# Altium integrated library Altera Cyclone IV E.IntLib: 223 symbols (part 8 of 32)
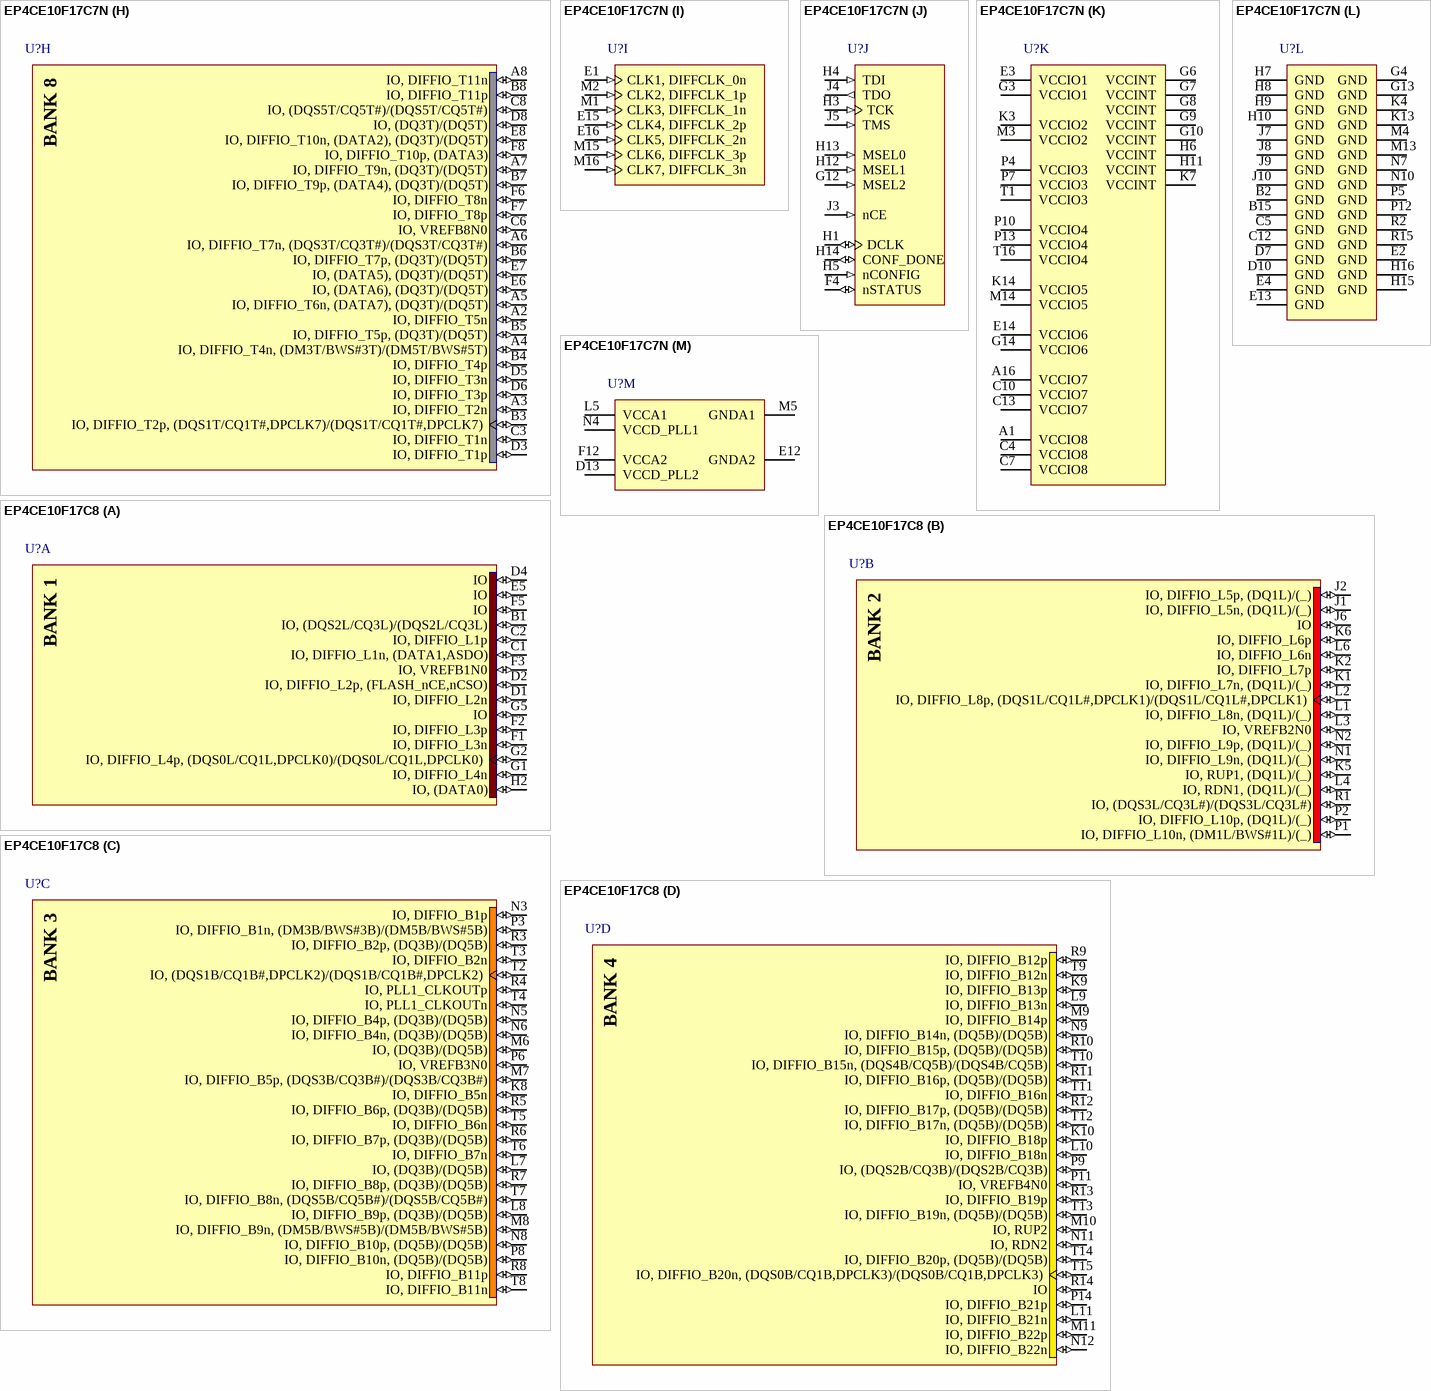
[diagram p503: symbols EP4CE10F17C7N to EP4CE10F17C8]

## EP4CE10F17C7N
designator U?
Cyclone IV Family FPGA, 1.2V Core, 179 I/O Pins, 2 PLLs, 256-Pin FBGA, Speed Grade 7, Commercial Grade, Pb-Free; Manufacturer: Altera; DatasheetVersion: ver1.6, Nov-2011; PackageVersion: ver2.0, Nov-2011; PackageReference: FBGA256_A-155; PackageDescription: 256-Pin FineLine Ball-Grid Array (FBGA) - Thin - Wire Bond - A:1.55; Code_JEDEC: MO-192-DAF-1; ComponentLink1Description: Manufacturer URL; ComponentLink1URL: http://www.altera.com/; ComponentLink2Description: Handbook; ComponentLink2URL: http://www.altera.com/literature/hb/cyclone-iv/cyclone4-handbook.pdf; ComponentLink3Description: Pinout; ComponentLink3URL: http://www.altera.com/literature/lit-dp.jsp?category=cyc%204&showspreadsheet=y; ComponentLink4Description: Package Specification; ComponentLink4URL: http://www.altera.com/devicepackaging/04R00230-03.pdf
footprint FBGA256_A-155 (BGA, 256-Leads, Body 17x17mm, Pitch 1mm)
part A pins: B1 IO, (DQS2L/CQ3L)/(DQS2L/CQ3L) (io), C1 IO, DIFFIO_L1n, (DATA1,ASDO) (io), C2 IO, DIFFIO_L1p (io), D1 IO, DIFFIO_L2n (io), D2 IO, DIFFIO_L2p, (FLASH_nCE,nCSO) (io), D4 IO (io), E5 IO (io), F1 IO, DIFFIO_L3n (io), F2 IO, DIFFIO_L3p (io), F3 IO, VREFB1N0 (io), F5 IO (io), G1 IO, DIFFIO_L4n (io), G2 IO, DIFFIO_L4p, (DQS0L/CQ1L,DPCLK0)/(DQS0L/CQ1L,DPCLK0) (io), G5 IO (io), H2 IO, (DATA0) (io)
part B pins: J1 IO, DIFFIO_L5n, (DQ1L)/(_) (io), J2 IO, DIFFIO_L5p, (DQ1L)/(_) (io), J6 IO (io), K1 IO, DIFFIO_L7n, (DQ1L)/(_) (io), K2 IO, DIFFIO_L7p (io), K5 IO, RUP1, (DQ1L)/(_) (io), K6 IO, DIFFIO_L6p (io), L1 IO, DIFFIO_L8n, (DQ1L)/(_) (io), L2 IO, DIFFIO_L8p, (DQS1L/CQ1L#,DPCLK1)/(DQS1L/CQ1L#,DPCLK1) (io), L3 IO, VREFB2N0 (io), L4 IO, RDN1, (DQ1L)/(_) (io), L6 IO, DIFFIO_L6n (io), N1 IO, DIFFIO_L9n, (DQ1L)/(_) (io), N2 IO, DIFFIO_L9p, (DQ1L)/(_) (io), P1 IO, DIFFIO_L10n, (DM1L/BWS#1L)/(_) (io), P2 IO, DIFFIO_L10p, (DQ1L)/(_) (io), R1 IO, (DQS3L/CQ3L#)/(DQS3L/CQ3L#) (io)
part C pins: K8 IO, DIFFIO_B5n (io), L7 IO, (DQ3B)/(DQ5B) (io), L8 IO, DIFFIO_B9p, (DQ3B)/(DQ5B) (io), M6 IO, (DQ3B)/(DQ5B) (io), M7 IO, DIFFIO_B5p, (DQS3B/CQ3B#)/(DQS3B/CQ3B#) (io), M8 IO, DIFFIO_B9n, (DM5B/BWS#5B)/(DM5B/BWS#5B) (io), N3 IO, DIFFIO_B1p (io), N5 IO, DIFFIO_B4p, (DQ3B)/(DQ5B) (io), N6 IO, DIFFIO_B4n, (DQ3B)/(DQ5B) (io), N8 IO, DIFFIO_B10p, (DQ5B)/(DQ5B) (io), P3 IO, DIFFIO_B1n, (DM3B/BWS#3B)/(DM5B/BWS#5B) (io), P6 IO, VREFB3N0 (io), P8 IO, DIFFIO_B10n, (DQ5B)/(DQ5B) (io), R3 IO, DIFFIO_B2p, (DQ3B)/(DQ5B) (io), R4 IO, PLL1_CLKOUTp (io), R5 IO, DIFFIO_B6p, (DQ3B)/(DQ5B) (io), R6 IO, DIFFIO_B7p, (DQ3B)/(DQ5B) (io), R7 IO, DIFFIO_B8p, (DQ3B)/(DQ5B) (io), R8 IO, DIFFIO_B11p (io), T2 IO, (DQS1B/CQ1B#,DPCLK2)/(DQS1B/CQ1B#,DPCLK2) (io), T3 IO, DIFFIO_B2n (io), T4 IO, PLL1_CLKOUTn (io), T5 IO, DIFFIO_B6n (io), T6 IO, DIFFIO_B7n (io), T7 IO, DIFFIO_B8n, (DQS5B/CQ5B#)/(DQS5B/CQ5B#) (io), T8 IO, DIFFIO_B11n (io)
part D pins: K9 IO, DIFFIO_B13p (io), K10 IO, DIFFIO_B18p (io), L9 IO, DIFFIO_B13n (io), L10 IO, DIFFIO_B18n (io), L11 IO, DIFFIO_B21n (io), M9 IO, DIFFIO_B14p (io), M10 IO, RUP2 (io), M11 IO, DIFFIO_B22p (io), N9 IO, DIFFIO_B14n, (DQ5B)/(DQ5B) (io), N11 IO, RDN2 (io), N12 IO, DIFFIO_B22n (io), P9 IO, (DQS2B/CQ3B)/(DQS2B/CQ3B) (io), P11 IO, VREFB4N0 (io), P14 IO, DIFFIO_B21p (io), R9 IO, DIFFIO_B12p (io), R10 IO, DIFFIO_B15p, (DQ5B)/(DQ5B) (io), R11 IO, DIFFIO_B16p, (DQ5B)/(DQ5B) (io), R12 IO, DIFFIO_B17p, (DQ5B)/(DQ5B) (io), R13 IO, DIFFIO_B19p (io), R14 IO (io), T9 IO, DIFFIO_B12n (io), T10 IO, DIFFIO_B15n, (DQS4B/CQ5B)/(DQS4B/CQ5B) (io), T11 IO, DIFFIO_B16n (io), T12 IO, DIFFIO_B17n, (DQ5B)/(DQ5B) (io), T13 IO, DIFFIO_B19n, (DQ5B)/(DQ5B) (io), T14 IO, DIFFIO_B20p, (DQ5B)/(DQ5B) (io), T15 IO, DIFFIO_B20n, (DQS0B/CQ1B,DPCLK3)/(DQS0B/CQ1B,DPCLK3) (io)
part E pins: J11 IO (io), J12 IO, DIFFIO_R6p (io), J13 IO, (DQ1R)/(_) (io), J14 IO, DIFFIO_R6n, (DQ1R)/(_) (io), J15 IO, DIFFIO_R7p, (DEV_CLRn) (io), J16 IO, DIFFIO_R7n, (DEV_OE) (io), K11 IO (io), K12 IO (io), K15 IO, DIFFIO_R8p, (DQS1R/CQ1R#,DPCLK4)/(DQS1R/CQ1R#,DPCLK4) (io), K16 IO, DIFFIO_R8n, (DQ1R)/(_) (io), L12 IO (io), L13 IO, (DQ1R)/(_) (io), L14 IO, VREFB5N0 (io), L15 IO, DIFFIO_R9p (io), L16 IO, DIFFIO_R9n, (DQ1R)/(_) (io), M12 IO (io), N13 IO (io), N14 IO, RUP3, (DM1R/BWS#1R)/(_) (io), N15 IO, DIFFIO_R10p, (DQ1R)/(_) (io), N16 IO, DIFFIO_R10n, (DQ1R)/(_) (io), P15 IO, RDN3, (DQ1R)/(_) (io), P16 IO, DIFFIO_R11n, (DQS3R/CQ3R#)/(DQS3R/CQ3R#) (io), R16 IO, DIFFIO_R11p, (DQ1R)/(_) (io)
part F pins: B16 IO, (DQS0R/CQ1R,DPCLK5)/(DQS0R/CQ1R,DPCLK5) (io), C15 IO, DIFFIO_R1p (io), C16 IO, DIFFIO_R1n, (DQS2R/CQ3R)/(DQS2R/CQ3R) (io), D15 IO, DIFFIO_R2p (io), D16 IO, DIFFIO_R2n (io), F13 IO (io), F14 IO, VREFB6N0 (io), F15 IO, DIFFIO_R3p, (CLKUSR) (io), F16 IO, DIFFIO_R3n, (nCEO) (io), G11 IO (io), G15 IO, DIFFIO_R4p, (CRC_ERROR) (io), G16 IO, DIFFIO_R4n, (INIT_DONE) (io)
part G pins: A9 IO, DIFFIO_T12n (io), A10 IO, DIFFIO_T14n, (DQ5T)/(DQ5T) (io), A11 IO, DIFFIO_T17n, (DQ5T)/(DQ5T) (io), A12 IO, DIFFIO_T18n, (DQ5T)/(DQ5T) (io), A13 IO, DIFFIO_T19n (io), A14 IO, PLL2_CLKOUTn (io), A15 IO, DIFFIO_T15p (io), B9 IO, DIFFIO_T12p (io), B10 IO, DIFFIO_T14p, (DQ5T)/(DQ5T) (io), B11 IO, DIFFIO_T17p, (DQ5T)/(DQ5T) (io), B12 IO, DIFFIO_T18p, (DQ5T)/(DQ5T) (io), B13 IO, DIFFIO_T19p, (DQ5T)/(DQ5T) (io), B14 IO, PLL2_CLKOUTp (io), C9 IO, DIFFIO_T13n, (DQ5T)/(DQ5T) (io), C11 IO, VREFB7N0 (io), C14 IO, DIFFIO_T21n (io), D9 IO, DIFFIO_T13p, (DM5T/BWS#5T)/(DM5T/BWS#5T) (io), D11 IO, DIFFIO_T20n (io), D12 IO, DIFFIO_T20p, (DQS0T/CQ1T,DPCLK6)/(DQS0T/CQ1T,DPCLK6) (io), D14 IO, DIFFIO_T21p, (DQ5T)/(DQ5T) (io), E9 IO, (DQS4T/CQ5T)/(DQS4T/CQ5T) (io), E10 IO, RDN4 (io), E11 IO, RUP4 (io), F9 IO, DIFFIO_T16p, (DQS2T/CQ3T)/(DQS2T/CQ3T) (io), F10 IO, DIFFIO_T16n (io), F11 IO, DIFFIO_T15n (io)
part H pins: A2 IO, DIFFIO_T5n (io), A3 IO, DIFFIO_T2n (io), A4 IO, DIFFIO_T4n, (DM3T/BWS#3T)/(DM5T/BWS#5T) (io), A5 IO, DIFFIO_T6n, (DATA7), (DQ3T)/(DQ5T) (io), A6 IO, DIFFIO_T7n, (DQS3T/CQ3T#)/(DQS3T/CQ3T#) (io), A7 IO, DIFFIO_T9n, (DQ3T)/(DQ5T) (io), A8 IO, DIFFIO_T11n (io), B3 IO, DIFFIO_T2p, (DQS1T/CQ1T#,DPCLK7)/(DQS1T/CQ1T#,DPCLK7) (io), B4 IO, DIFFIO_T4p (io), B5 IO, DIFFIO_T5p, (DQ3T)/(DQ5T) (io), B6 IO, DIFFIO_T7p, (DQ3T)/(DQ5T) (io), B7 IO, DIFFIO_T9p, (DATA4), (DQ3T)/(DQ5T) (io), B8 IO, DIFFIO_T11p (io), C3 IO, DIFFIO_T1n (io), C6 IO, VREFB8N0 (io), C8 IO, (DQS5T/CQ5T#)/(DQS5T/CQ5T#) (io), D3 IO, DIFFIO_T1p (io), D5 IO, DIFFIO_T3n (io), D6 IO, DIFFIO_T3p (io), D8 IO, (DQ3T)/(DQ5T) (io), E6 IO, (DATA6), (DQ3T)/(DQ5T) (io), E7 IO, (DATA5), (DQ3T)/(DQ5T) (io), E8 IO, DIFFIO_T10n, (DATA2), (DQ3T)/(DQ5T) (io), F6 IO, DIFFIO_T8n (io), F7 IO, DIFFIO_T8p (io), F8 IO, DIFFIO_T10p, (DATA3) (io)
part I pins: E1 CLK1, DIFFCLK_0n (in), E15 CLK4, DIFFCLK_2p (in), E16 CLK5, DIFFCLK_2n (in), M1 CLK3, DIFFCLK_1n (in), M2 CLK2, DIFFCLK_1p (in), M15 CLK6, DIFFCLK_3p (in), M16 CLK7, DIFFCLK_3n (in)
part J pins: F4 nSTATUS (io), G12 MSEL2 (in), H1 DCLK (io), H3 TCK (in), H4 TDI (in), H5 nCONFIG (in), H12 MSEL1 (in), H13 MSEL0 (in), H14 CONF_DONE (io), J3 nCE (in), J4 TDO (out), J5 TMS (in)
part K pins: A1 VCCIO8 (power), A16 VCCIO7 (power), C4 VCCIO8 (power), C7 VCCIO8 (power), C10 VCCIO7 (power), C13 VCCIO7 (power), E3 VCCIO1 (power), E14 VCCIO6 (power), G3 VCCIO1 (power), G6 VCCINT (power), G7 VCCINT (power), G8 VCCINT (power), G9 VCCINT (power), G10 VCCINT (power), G14 VCCIO6 (power), H6 VCCINT (power), H11 VCCINT (power), K3 VCCIO2 (power), K7 VCCINT (power), K14 VCCIO5 (power), M3 VCCIO2 (power), M14 VCCIO5 (power), P4 VCCIO3 (power), P7 VCCIO3 (power), P10 VCCIO4 (power), P13 VCCIO4 (power), T1 VCCIO3 (power), T16 VCCIO4 (power)
part L pins: B2 GND (power), B15 GND (power), C5 GND (power), C12 GND (power), D7 GND (power), D10 GND (power), E2 GND (power), E4 GND (power), E13 GND (power), G4 GND (power), G13 GND (power), H7 GND (power), H8 GND (power), H9 GND (power), H10 GND (power), H15 GND (power), H16 GND (power), J7 GND (power), J8 GND (power), J9 GND (power), J10 GND (power), K4 GND (power), K13 GND (power), M4 GND (power), M13 GND (power), N7 GND (power), N10 GND (power), P5 GND (power), P12 GND (power), R2 GND (power), R15 GND (power)
part M pins: D13 VCCD_PLL2 (power), E12 GNDA2 (power), F12 VCCA2 (power), L5 VCCA1 (power), M5 GNDA1 (power), N4 VCCD_PLL1 (power)
part A text: BANK 1
part B text: BANK 2
part C text: BANK 3
part D text: BANK 4
part E text: BANK 5
part F text: BANK 6
part G text: BANK 7
part H text: BANK 8

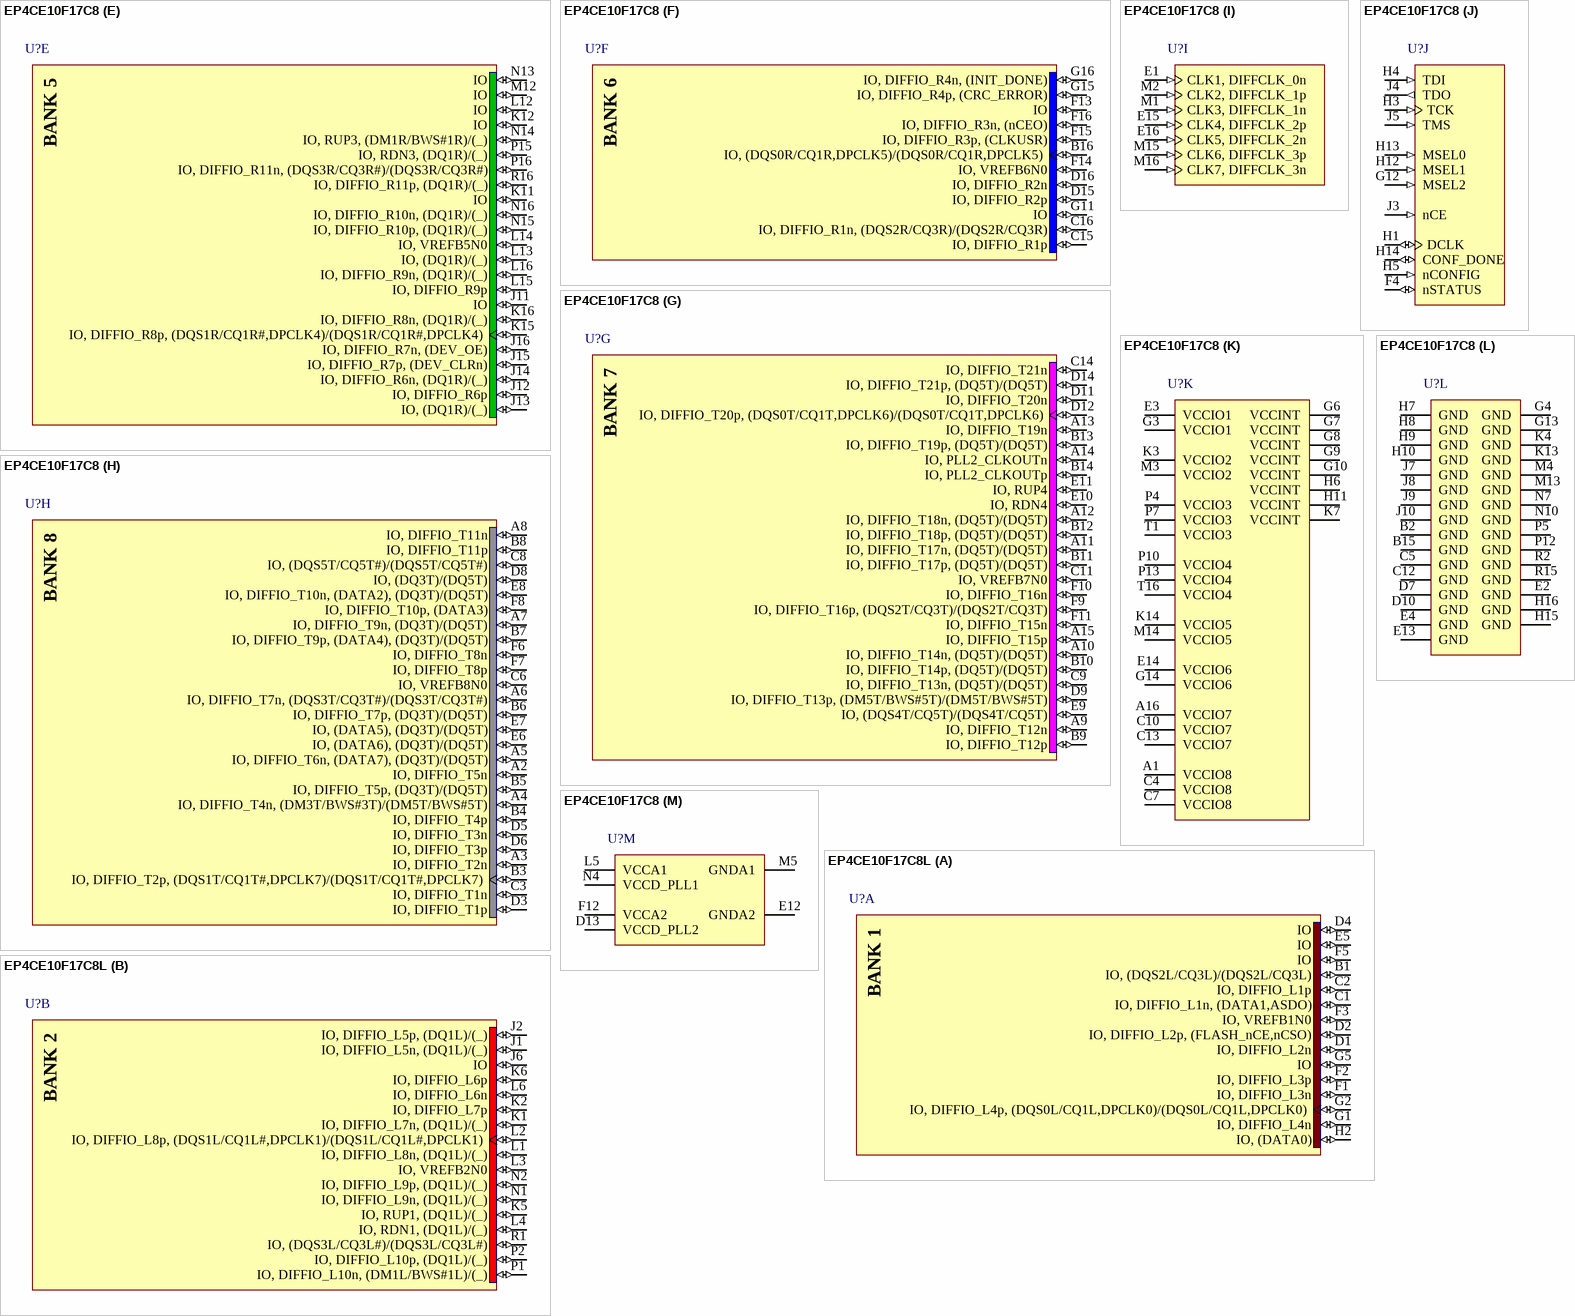
[diagram p40: symbols EP4CE10F17C8 to EP4CE10F17C8L]